# Altium footprint library Tempature Sensor.PcbLib: 7 footprints
Each footprint in its own frame and in the unit in brackets; x right, y up, seen from the top. Pads: shape width x height; smd on the part's side, far side on the other; paste and mask are expansions set on the pad; w line width, h text height; cw(c..) or ccw(c..) is an arc to the next point about the centre after c.
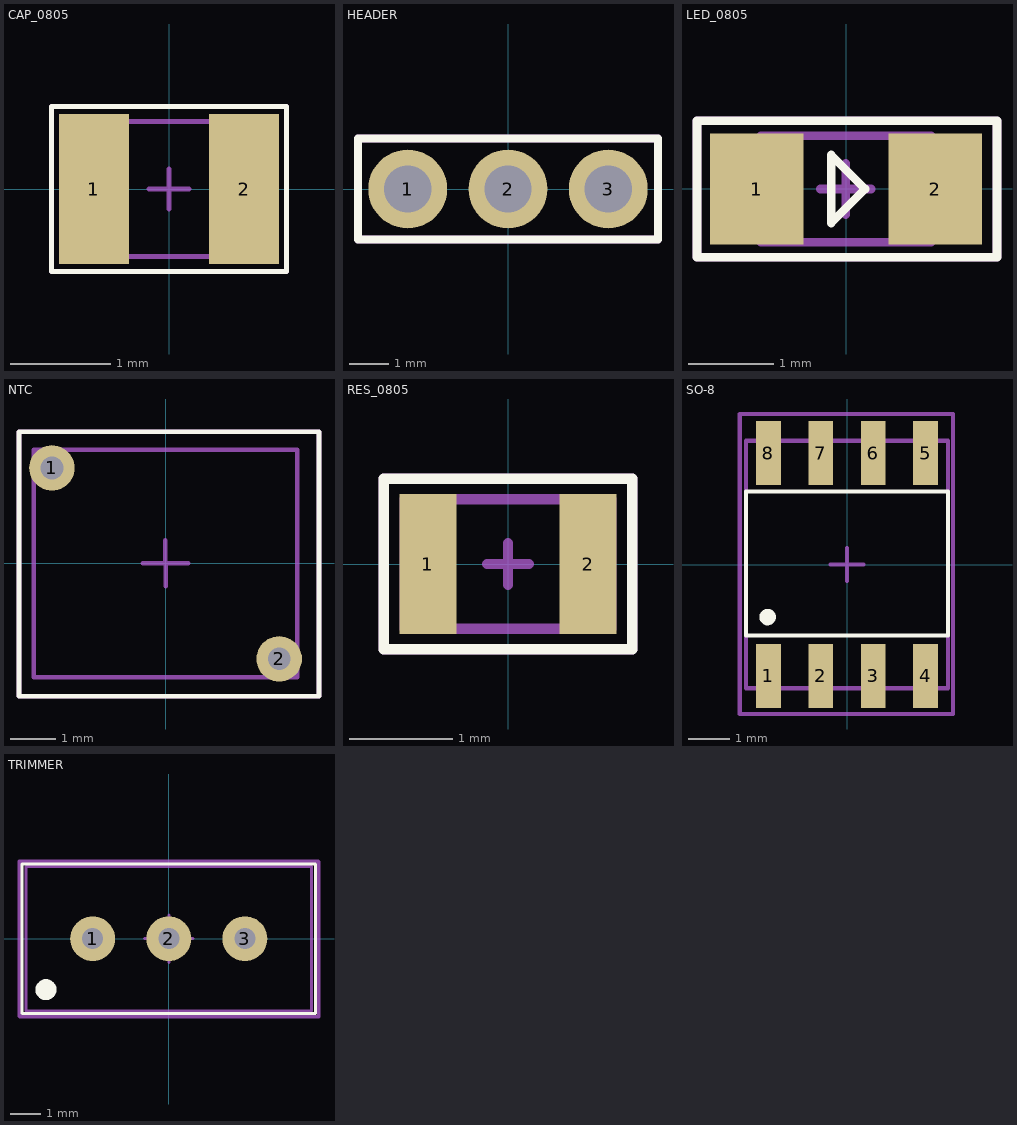
[diagram p0: the footprints below, top view; thin cyan lines are the x and y axes]

## CAP_0805 [mm]
pads (2):
  rect 0.7x1.5 smd mask+0.05: 1(-0.75,0) 2(0.75,0)
Top Overlay:
  lines w0.05: -1.175,-0.825 -1.175,0.825 1.175,0.825 1.175,-0.825 -1.175,-0.825
Top 3D Body:
  lines w0.05: -1,-0.675 -1,0.675 1,0.675 1,-0.675 -1,-0.675
Top Component Center:
  lines w0.05: -0.2,0 0,0 ; 0,-0.2 0,0 ; 0,0.2 0,0 ; 0.2,0 0,0 ; -1.175,-0.825 -1.175,0.825 1.175,0.825 1.175,-0.825 -1.175,-0.825
Top Designator:
  lines w0.05: -1.175,-0.825 -1.175,0.825 1.175,0.825 1.175,-0.825 -1.175,-0.825
  text ".Designator" at -0.17,-0.203 h0.5
3D body "CL21A475KAQNNNE.step": height 1.22, standoff -0.03, extent -1,-0.675 1,0.675

## HEADER [mm]
pads (3):
  round 2 hole 1.2 mask+0.05: 1(-2.54,0) 2(0,0) 3(2.54,0)
Top Overlay:
  lines w0.2: -3.8,-1.275 -3.8,1.275 ; -3.8,-1.275 3.8,-1.275 ; -3.8,-1.275 -3.8,1.275 ; -3.8,-1.275 3.8,-1.275 ; -3.8,1.275 3.8,1.275 ; -3.8,1.275 3.8,1.275 ; 3.8,-1.275 3.8,1.275
Top 3D Body:
  lines w0.2: -3.8,-1.275 -3.8,1.275 3.8,1.275 3.8,-1.275 -3.8,-1.275
Top Component Center:
  lines w0.2: -0.675,0 0,0 ; 0,-0.675 0,0 ; 0,0.675 0,0 ; 0.675,0 0,0 ; -3.8,-1.275 -3.8,1.275 3.8,1.275 3.8,-1.275 -3.8,-1.275
Top Designator:
  lines w0.2: -3.8,-1.275 3.8,-1.275 3.8,1.275 -3.8,1.275 -3.8,-1.275
  text ".Designator" at 0.075,-0.367 h1
3D body "61300311121_Download_STP_61300311121_rev1.stp": height 8.57, standoff -2.97, extent -3.81,-1.27 3.81,1.27

## LED_0805 [mm]
pads (2):
  rect 1.1x1.3 smd mask+0.05: 1(-1.053,-0.002) 2(1.047,-0.002)
Top Overlay:
  lines w0.1: -1.753,-0.802 1.772,-0.802 1.772,0.798 -1.753,0.798 -1.753,-0.802 ; -0.178,-0.402 0.222,-0.002 -0.178,0.398 -0.178,-0.402
Top 3D Body:
  lines w0.1: -1.003,-0.627 -1.003,0.623 0.997,0.623 0.997,-0.627 -1.003,-0.627
Top Component Center:
  lines w0.1: -0.303,-0.002 -0.003,-0.002 ; -0.003,-0.302 -0.003,-0.002 ; -0.003,0.298 -0.003,-0.002 ; 0.297,-0.002 -0.003,-0.002 ; -1.753,-0.802 1.772,-0.802 1.772,0.798 -1.753,0.798 -1.753,-0.802
Top Designator:
  lines w0.1: -1.753,-0.802 1.772,-0.802 1.772,0.798 -1.753,0.798 -1.753,-0.802
  text ".Designator" at -0.628,-0.519 h1
3D body "Download_STP_WL-SMCW-0805_rev1.stp": height 0.7, standoff 0, extent -1.003,-0.627 0.997,0.623

## NTC [mm]
pads (2):
  round 1 hole 0.5 mask+0.05: 1(-2.5,2.1) 2(2.5,-2.1)
Top Overlay:
  lines w0.1: -3.225,-2.925 3.375,-2.925 3.375,2.9 -3.225,2.9 -3.225,-2.925
Top 3D Body:
  lines w0.1: -2.9,-2.5 -2.9,2.5 2.9,2.5 2.9,-2.5 -2.9,-2.5
Top Component Center:
  lines w0.1: -0.5,0 0,0 ; -0.003,0.005 -0.003,0.505 ; 0,-0.5 0,0 ; 0.5,0 0,0 ; -3.225,-2.925 3.375,-2.925 3.375,2.9 -3.225,2.9 -3.225,-2.925
Top Designator:
  lines w0.1: -3.225,-2.925 -3.225,2.9 3.375,2.9 3.375,-2.925 -3.225,-2.925
  text ".Designator" at 0.15,-0.583 h0.8
3D body "k164.stp": height 7.75, standoff -29.25, extent -2.9,-2.5 2.9,2.5

## RES_0805 [mm]
pads (2):
  rect 0.55x1.35 smd mask+0.05: 1(-0.775,0) 2(0.775,0)
Top Overlay:
  lines w0.1: -1.2,-0.825 -1.2,0.825 1.2,0.825 1.2,-0.825 -1.2,-0.825
Top 3D Body:
  lines w0.1: -1,-0.625 -1,0.625 1,0.625 1,-0.625 -1,-0.625
Top Component Center:
  lines w0.1: -0.2,0 0,0 ; 0,-0.2 0,0 ; 0,0.2 0,0 ; 0.2,0 0,0 ; -1.2,-0.825 -1.2,0.825 1.2,0.825 1.2,-0.825 -1.2,-0.825
Top Designator:
  lines w0.1: -1.2,-0.825 -1.2,0.825 1.2,0.825 1.2,-0.825 -1.2,-0.825
  text ".Designator" at -0.295,-0.295 h0.6
3D body "RC0805FR-07100RL.step": height 0.6, standoff 0, extent -1,-0.625 1,0.625

## SO-8 [mm]
pads (8):
  rect 0.6x1.55 smd mask+0.05: 1(-1.905,-2.7) 2(-0.635,-2.7) 3(0.635,-2.7) 4(1.905,-2.7) 5(1.905,2.7) 6(0.635,2.7) 7(-0.635,2.7) 8(-1.905,2.7)
Top Overlay:
  circle w0.2: c-1.925,-1.275 r0.1
  lines w0.1: -2.45,-1.725 2.45,-1.725 2.45,1.775 -2.45,1.775 -2.45,-1.725
Top 3D Body:
  lines w0.1: -2.45,-3 2.45,-3 2.45,3 -2.45,3 -2.45,-3
Top Component Center:
  lines w0.1: -0.4,0 0,0 ; 0,-0.4 0,0 ; 0,0.4 0,0 ; 0.4,0 0,0 ; -2.6,-3.625 2.575,-3.625 2.575,3.65 -2.6,3.65 -2.6,-3.625
Top Designator:
  lines w0.1: -2.6,-3.625 2.575,-3.625 2.575,3.65 -2.6,3.65 -2.6,-3.625
  text ".Designator" at -0.95,-0.508 h0.8
3D body "LM358S-13.STEP": height 1.7, standoff 0, extent -2.45,-3 2.45,3

## TRIMMER [mm]
pads (3):
  round 1.5 hole 0.7 mask+0.05: 1(-2.54,0) 2(0,0) 3(2.54,0)
Top Overlay:
  circle w0.5: c-4.1,-1.7 r0.1
  lines w0.1: -4.9,-2.5 -4.9,2.5 4.9,2.5 4.9,-2.5 -4.9,-2.5
Top 3D Body:
  lines w0.1: -4.765,2.41 -4.764,2.409 -4.764,-2.419 4.764,-2.419 4.764,-2.419 4.764,2.408 4.762,2.41 -4.765,2.41
Top Component Center:
  lines w0.1: -0.812,0.01 -0.012,0.01 ; 0,-0.8 0,0 ; 0,0.8 0,0 ; 0.8,0 0,0 ; -4.988,-2.61 5.012,-2.61 5.012,2.582 -4.988,2.582 -4.988,-2.61
Top Designator:
  lines w0.1: -5,-2.6 -5,2.592 5,2.592 5,-2.6 -5,-2.6
  text ".Designator" at 0.4,-0.433 h0.8
3D body "PV36W103C01B00.STEP": height 11.55, standoff -7.72, extent -4.765,-2.42 4.765,2.41